# Altium footprint library CAPC5750X270.PcbLib: 3 footprints
Each footprint in its own frame and in the unit in brackets; x right, y up, seen from the top. Pads: shape width x height; smd on the part's side, far side on the other; paste and mask are expansions set on the pad; w line width, h text height; cw(c..) or ccw(c..) is an arc to the next point about the centre after c.
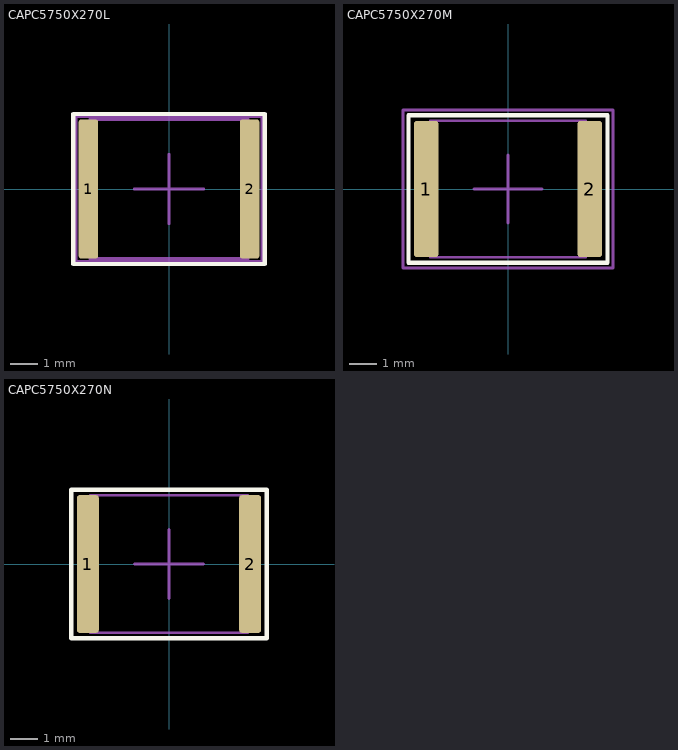
[diagram p0: the footprints below, top view; thin cyan lines are the x and y axes]

## CAPC5750X270L [mm] "Capacitors, Chip, Non-polarized"
height 3
pads (2):
  rrect25% 0.7x5 smd: 1(-2.9,0) 2(2.9,0)
Top Overlay:
  lines w0.16: -3.45,-2.7 3.45,-2.7 3.45,2.7 -3.45,2.7 -3.45,-2.7
Top Component Center:
  lines w0.1: -1.25,0 1.25,0 ; 0,-1.25 0,1.25
Top Courtyard:
  lines w0.1: -3.35,-2.6 3.35,-2.6 3.35,2.6 -3.35,2.6 -3.35,-2.6
Top Assembly:
  lines w0.1: -2.85,-2.5 2.85,-2.5 2.85,2.5 -2.85,2.5 -2.85,-2.5
  text ".Designator" at 0,0 h1
3D body "CAPC5750X270L.STEP": height 2.7, standoff 0, extent -2.85,-2.5 2.85,2.5

## CAPC5750X270M [mm] "Capacitors, Chip, Non-polarized"
height 3
pads (2):
  rrect25% 0.9x5 smd: 1(-3,0) 2(3,0)
Top Overlay:
  lines w0.16: -3.65,-2.7 3.65,-2.7 3.65,2.7 -3.65,2.7 -3.65,-2.7
Top Component Center:
  lines w0.1: -1.25,0 1.25,0 ; 0,-1.25 0,1.25
Top Courtyard:
  lines w0.1: -3.85,-2.9 3.85,-2.9 3.85,2.9 -3.85,2.9 -3.85,-2.9
Top Assembly:
  lines w0.1: -2.85,-2.5 2.85,-2.5 2.85,2.5 -2.85,2.5 -2.85,-2.5
  text ".Designator" at 0,0 h1
3D body "CAPC5750X270M.STEP": height 2.7, standoff 0, extent -2.85,-2.5 2.85,2.5

## CAPC5750X270N [mm] "Capacitors, Chip, Non-polarized"
height 3
pads (2):
  rrect25% 0.8x5 smd: 1(-2.95,0) 2(2.95,0)
Top Overlay:
  lines w0.16: -3.55,-2.7 3.55,-2.7 3.55,2.7 -3.55,2.7 -3.55,-2.7
Top Component Center:
  lines w0.1: -1.25,0 1.25,0 ; 0,-1.25 0,1.25
Top Courtyard:
  lines w0.1: -3.55,-2.7 3.55,-2.7 3.55,2.7 -3.55,2.7 -3.55,-2.7
Top Assembly:
  lines w0.1: -2.85,-2.5 2.85,-2.5 2.85,2.5 -2.85,2.5 -2.85,-2.5
  text ".Designator" at 0,0 h1
3D body "CAPC5750X270N.STEP": height 2.7, standoff 0, extent -2.85,-2.5 2.85,2.5